# Altium footprint library CeleronLib_Module.PcbLib: 1 footprints
Each footprint in its own frame and in the unit in brackets; x right, y up, seen from the top. Pads: shape width x height; smd on the part's side, far side on the other; paste and mask are expansions set on the pad; w line width, h text height; cw(c..) or ccw(c..) is an arc to the next point about the centre after c.
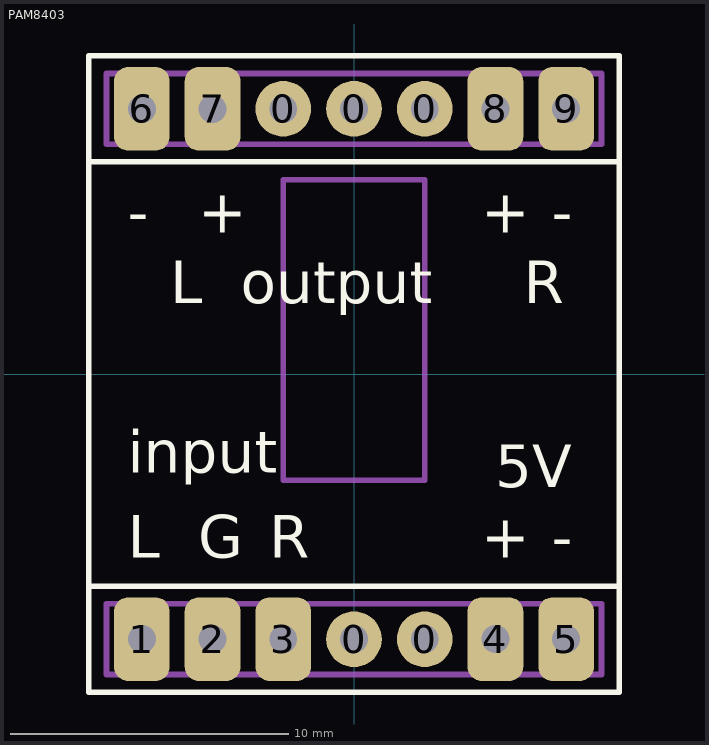
[diagram p0: the footprint, top view; thin cyan lines are the x and y axes]

## PAM8403 [mm] "Усилитель PAM8403 2х 3W 5V (миниатюрный усилитель класса D)"
height 15
pads (14):
  round 2 hole 1: 0(-2.54,9.525) 0(0,-9.525) 0(0,9.525) 0(2.54,-9.525) 0(2.54,9.525)
  rrect50% 2x3 hole 1: 1(-7.62,-9.525) 2(-5.08,-9.525) 3(-2.54,-9.525) 4(5.08,-9.525) 5(7.62,-9.525) 6(-7.62,9.525) 7(-5.08,9.525) 8(5.08,9.525) 9(7.62,9.525)
Top Overlay:
  lines w0.2: -9.525,-7.62 9.525,-7.62 ; -9.525,7.62 9.525,7.62 ; -9.525,-11.43 9.525,-11.43 9.525,11.43 -9.525,11.43 -9.525,-11.43
  text "5V" at 5.08,-4.064 h1.52
  text "-" at 7.112,-6.604 h1.52
  text "-" at 7.112,5.08 h1.52
  text "-" at -8.128,5.08 h1.52
  text "+" at -5.588,5.08 h1.52
  text "+" at 4.572,5.08 h1.52
  text "+" at 4.572,-6.604 h1.52
  text "R" at -3.048,-6.604 h1.52
  text "G" at -5.588,-6.604 h1.52
  text "L" at -8.128,-6.604 h1.52
  text "L" at -6.604,2.54 h1.52
  text "R" at 6.096,2.54 h1.52
  text "output" at -4.064,2.54 h1.52
  text "input" at -8.128,-3.556 h1.52
Top 3D:
  lines w0.2: -8.89,-10.795 -8.89,-8.255 8.89,-8.255 8.89,-10.795 -8.89,-10.795 ; -8.89,8.255 8.89,8.255 8.89,10.795 -8.89,10.795 -8.89,8.255 ; -2.54,-3.81 2.54,-3.81 2.54,6.985 -2.54,6.985 -2.54,-3.81
3D body: height 13, standoff 11, extent -9.625,-11.53 9.625,11.53
3D body: height 11, standoff 0, extent -8.889,-10.794 8.889,-8.256
3D body: height 11, standoff 0, extent -8.889,8.256 8.889,10.794
3D body: height 14.5, standoff 13, extent -2.539,-3.809 2.539,6.984